# Altium schematic symbol library PDC1620B0011.SchLib: 1 symbol
Pins are listed as number, name and electrical type; pins without a type are passive.

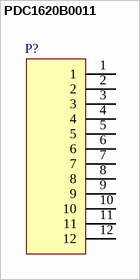
[diagram p0: symbol PDC1620B0011]

## PDC1620B0011
designator P?
PROLANV Battery Connector, PDC series - Female - 12 Pin - 12P+0D
pins: 1, 2, 3, 4, 5, 6, 7, 8, 9, 10, 11, 12